# Altium footprint library TQFP-52_10x10x065P.PcbLib: 1 footprints
Each footprint in its own frame and in the unit in brackets; x right, y up, seen from the top. Pads: shape width x height; smd on the part's side, far side on the other; paste and mask are expansions set on the pad; w line width, h text height; cw(c..) or ccw(c..) is an arc to the next point about the centre after c.
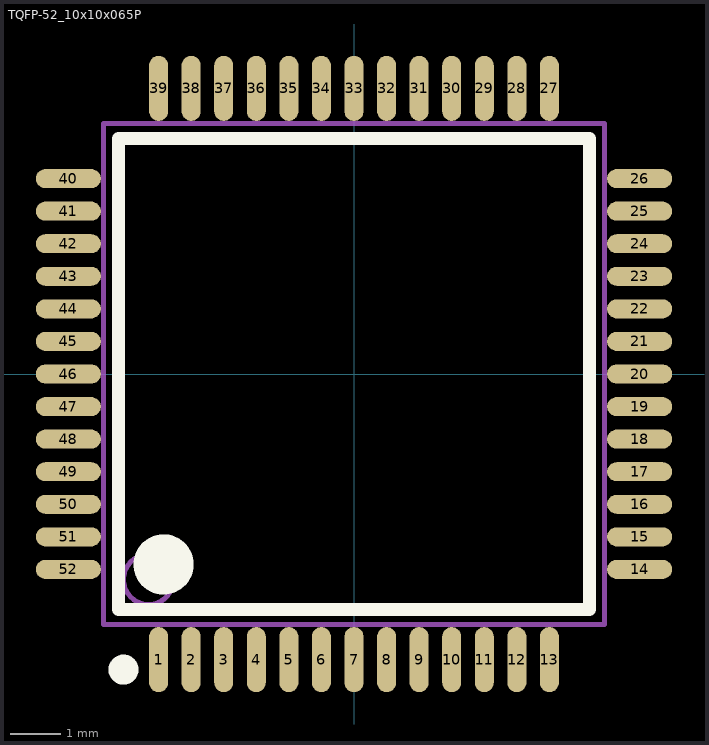
[diagram p0: the footprint, top view; thin cyan lines are the x and y axes]

## TQFP-52_10x10x065P [mm]
pads (52):
  oval 0.38x1.3 smd mask+0.051: 1(-3.9,-5.7) 2(-3.25,-5.7) 3(-2.6,-5.7) 4(-1.95,-5.7) 5(-1.3,-5.7) 6(-0.65,-5.7) 7(0,-5.7) 8(0.65,-5.7) 9(1.3,-5.7) 10(1.95,-5.7) 11(2.6,-5.7) 12(3.25,-5.7) 13(3.9,-5.7) 27(3.9,5.7) 28(3.25,5.7) 29(2.6,5.7) 30(1.95,5.7) 31(1.3,5.7) 32(0.65,5.7) 33(0,5.7) 34(-0.65,5.7) 35(-1.3,5.7) 36(-1.95,5.7) 37(-2.6,5.7) 38(-3.25,5.7) 39(-3.9,5.7)
  oval 1.3x0.38 smd mask+0.051: 14(5.7,-3.9) 15(5.7,-3.25) 16(5.7,-2.6) 17(5.7,-1.95) 18(5.7,-1.3) 19(5.7,-0.65) 20(5.7,0) 21(5.7,0.65) 22(5.7,1.3) 23(5.7,1.95) 24(5.7,2.6) 25(5.7,3.25) 26(5.7,3.9) 40(-5.7,3.9) 41(-5.7,3.25) 42(-5.7,2.6) 43(-5.7,1.95) 44(-5.7,1.3) 45(-5.7,0.65) 46(-5.7,0) 47(-5.7,-0.65) 48(-5.7,-1.3) 49(-5.7,-1.95) 50(-5.7,-2.6) 51(-5.7,-3.25) 52(-5.7,-3.9)
Top Overlay:
  circle w0.6: c-3.8,-3.8 r0.3
  circle w0.3: c-4.6,-5.9 r0.15
  lines w0.254: -4.7,-4.7 4.7,-4.7 4.7,4.7 -4.7,4.7 -4.7,-4.7
Mechanical 13:
  circle w0.1: c-4.1,-4.1 r0.5
  lines w0.1: -5,-5 5,-5 5,5 -5,5 -5,-5